# EAGLE library part LMH6643 (library AMH)
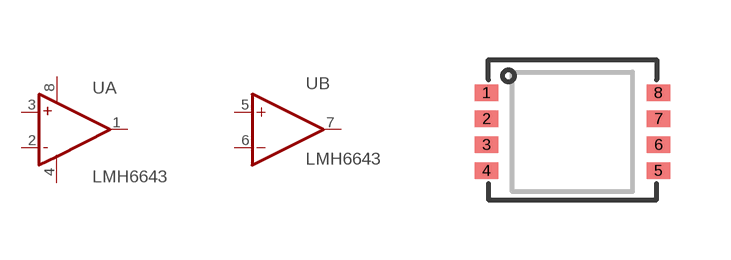
[diagram p1: symbol with the pads of 8-PIN_MSOP; footprint 8-PIN_MSOP]

Designator prefix -; gates A=OPAMP-DUAL B=OPAMP

## LMH6643  [8-PIN_MSOP]
1  A:OUT  out
2  A:-IN  in
3  A:+IN  in
4  A:VCC-  pwr
5  B:+IN  in
6  B:-IN  in
7  B:OUT  out
8  A:VCC+  pwr

## Footprint 8-PIN_MSOP (pad centres in mm)
smd 0.6 x 0.41: 1 -2.15,0.975; 2 -2.15,0.325; 3 -2.15,-0.325; 4 -2.15,-0.975; 5 2.15,-0.975; 6 2.15,-0.325; 7 2.15,0.325; 8 2.15,0.975